# Altium integrated library TI Power Management Battery Management.IntLib: 949 symbols (part 11 of 62)
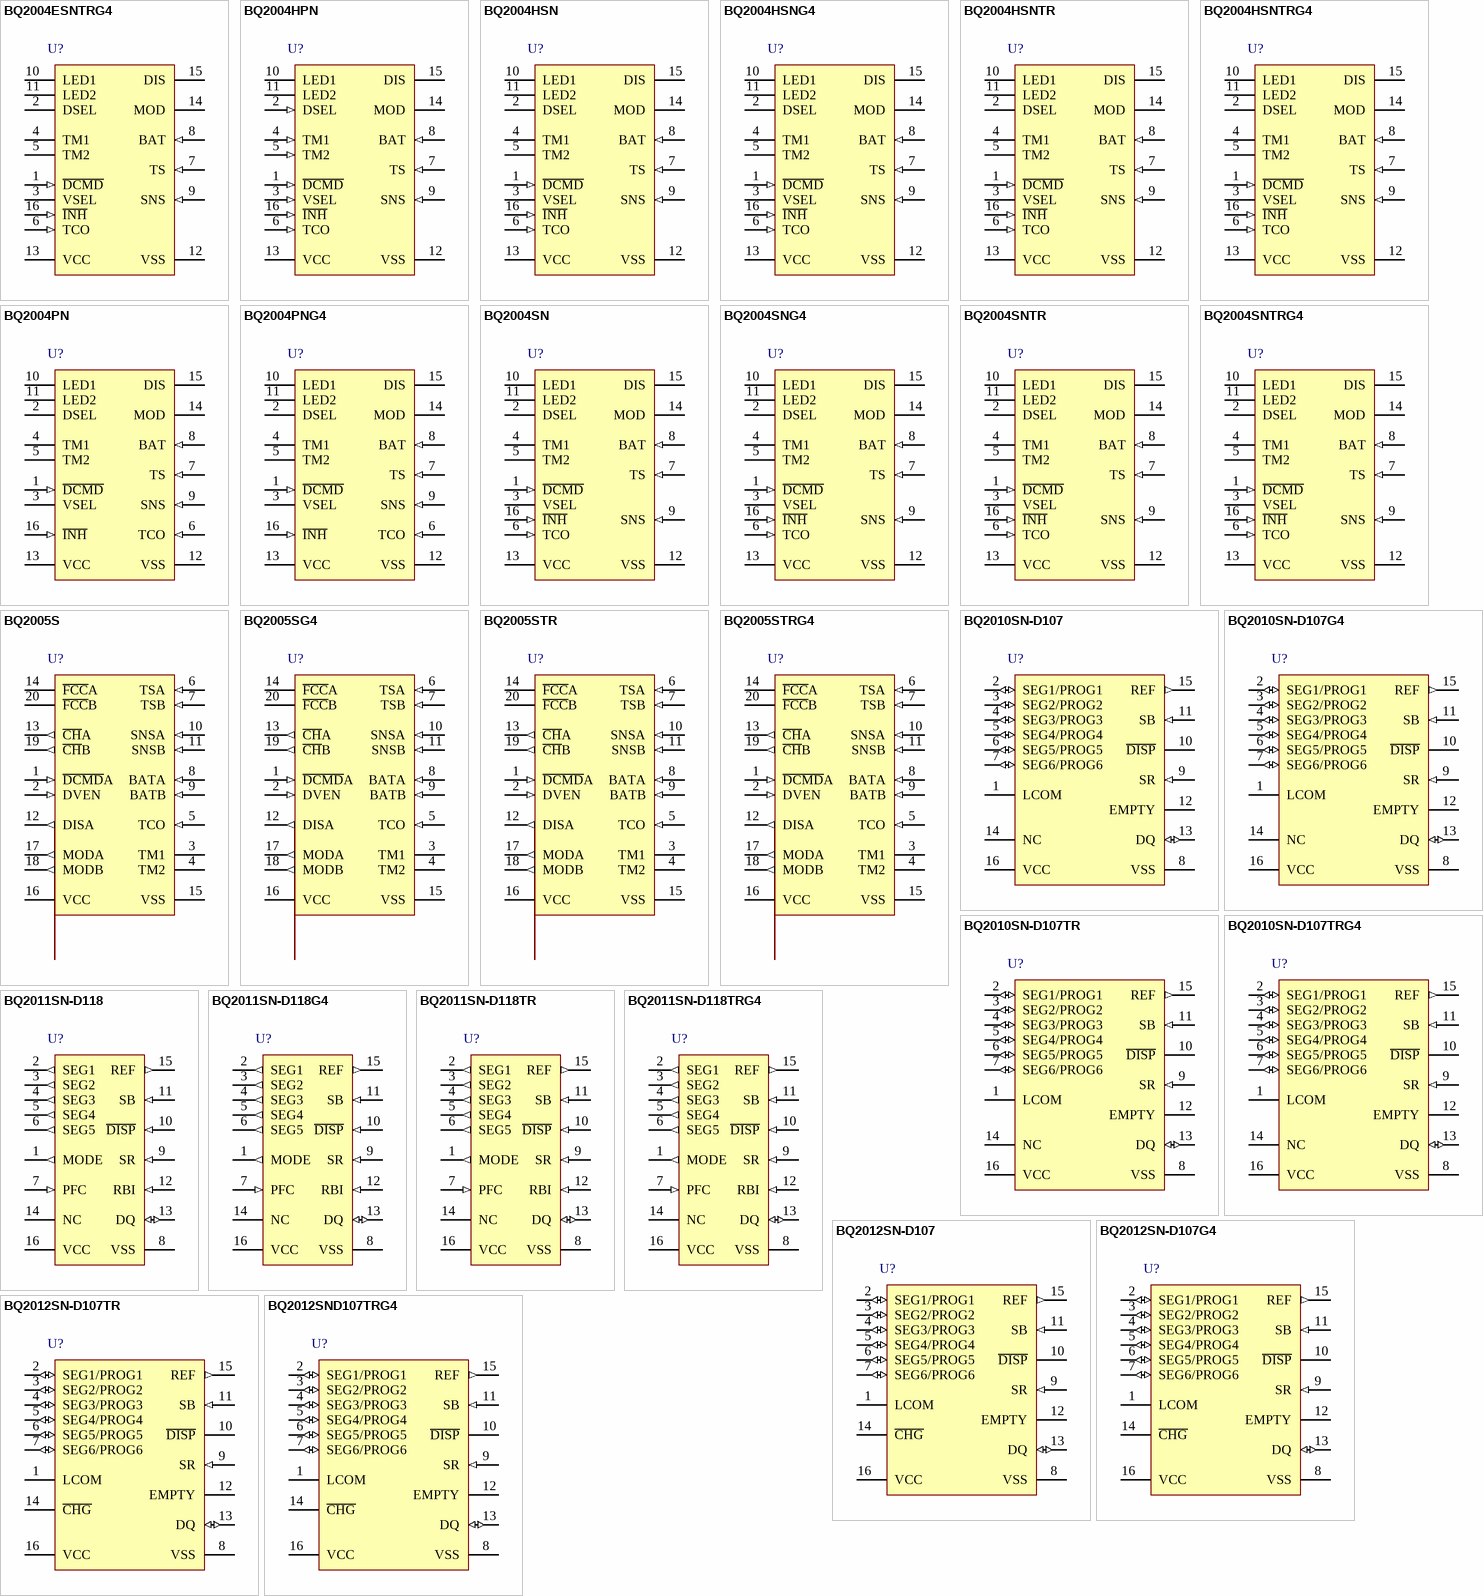
[diagram p44: symbols BQ2004ESNTRG4 to BQ2012SND107TRG4]

## BQ2010SN-D107TR
designator U?
NiCd / NiMH Gas Gauge with 1-Wire (DQ) Interface and 5 LED Drivers, 0 to 70 degC, 16-pin SOIC (D), Green (RoHS & no Sb/Br); PartNumber: BQ2010SN-D107TR; Manufacturer: Texas Instruments; Lead Acid: N; NiCd: Y; SubFamily: Battery Fuel Gauge; PackageVersion: revM, Jun-2011; PackageReference: D16; PackageDescription: 16-Pin Plastic Small Outline Integrated Circuit, 9.9 x 3.9 mm, Pitch 1.27 mm Pitch; Supplier 1: Digi-Key; Supplier Part Number 1: BQ2010SN-D107TR-ND; Supplier 2: Newark; Supplier Part Number 2: 74C7546; Supplier 3: Mouser; Supplier Part Number 3: 595-BQ2010SN-D107TR; Eco-Plan: Green (RoHS & no Sb/Br); Li-Ion: N; Li-Polymer: N; NiMH: Y; Over Voltage Protection: N; Mounting Technology: Surface Mount; Code_JEDEC: MS-012AC; ComponentLink1Description: Datasheet; ComponentLink1URL: http://www.ti.com/general/docs/lit/getliterature.tsp?genericPartNumber=BQ2010&fileType=pdf
footprint D16_N (SOIC, 16-Leads, Body 9.9x3.9mm, Pitch 1.27mm, IPC Medium Density)
footprint D16_L (SOIC, 16-Leads, Body 9.9x3.9mm, Pitch 1.27mm, IPC High Density)
footprint D16_M (SOIC, 16-Leads, Body 9.9x3.9mm, Pitch 1.27mm, IPC Low Density)
pins: 1 LCOM (hiz) "Open-drain output switches VCC to source current for the LEDs. The switch is off during initialization to allow reading of the soft pull-up or pull-down program resistors. LCOM is also high impedance when the display is off.", 2 SEG1/PROG1 (io) "Each output may activate an LED to sink the current sourced from LCOM. / This three-level input pin defines the programmed full count (PFC) thresholds described in Table 2.", 3 SEG2/PROG2 (io) "Each output may activate an LED to sink the current sourced from LCOM. / This three-level input pin defines the programmed full count (PFC) thresholds described in Table 2.", 4 SEG3/PROG3 (io) "Each output may activate an LED to sink the current sourced from LCOM. / This three-level input pin defines the scale factor described in Table 2.", 5 SEG4/PROG4 (io) "Each output may activate an LED to sink the current sourced from LCOM. / This three-level input pin defines the scale factor described in Table 2.", 6 SEG5/PROG5 (io) "Each output may activate an LED to sink the current sourced from LCOM. / This three-level input pin defines the selfdischarge compensation rate shown in Table 1.", 7 SEG6/PROG6 (io) "Each output may activate an LED to sink the current sourced from LCOM. / This three-level pin defines the display operation shown in Table 1.", 8 VSS (power) "Ground", 9 SR (in) "The voltage drop (VSR) across the sense resistor RS is monitored and integrated over time to interpret charge and discharge activity. The SR input is tied to the high side of the sense resistor. VSR < VSS indicates (See Datasheet)", 10 ~{DISP} "D\I\S\P\ high disables the LED display. D\I\S\P\ tied to VCC allows PROGX to connect directly to VCC or VSS instead of through a pull-up or pull-down resistor. D\I\S\P\ floating allows the LED display to be active during (See Datasheet)", 11 SB (in) "This input monitors the single-cell voltage potential through a high-impedance resistive divider network for end-of-discharge voltage (EDV) thresholds, maximum charge voltage (MCV), and battery removed.", 12 EMPTY (hiz) "This open-drain output becomes high-impedance on detection of a valid end-of-discharge voltage (VEDVF) and is low following the next application of a valid charge.", 13 DQ (io) "This is an open-drain bidirectional pin.", 14 NC "No connect", 15 REF (out) "REF provides a voltage reference output for an optional micro-regulator.", 16 VCC (power) "Supply voltage input."

## BQ2010SN-D107TRG4
designator U?
NiCd / NiMH Gas Gauge with 1-Wire (DQ) Interface and 5 LED Drivers, 0 to 70 degC, 16-pin SOIC (D), Green (RoHS & no Sb/Br); PartNumber: BQ2010SN-D107TRG4; Manufacturer: Texas Instruments; Lead Acid: N; NiCd: Y; SubFamily: Battery Fuel Gauge; PackageVersion: revM, Jun-2011; PackageReference: D16; PackageDescription: 16-Pin Plastic Small Outline Integrated Circuit, 9.9 x 3.9 mm, Pitch 1.27 mm Pitch; Supplier 1: Digi-Key; Supplier Part Number 1: BQ2010SN-D107TRG4-ND; Supplier 2: Newark; Supplier Part Number 2: 28K2818; Supplier 3: Mouser; Supplier Part Number 3: 595-BQ2010SND107TRG4; Eco-Plan: Green (RoHS & no Sb/Br); Li-Ion: N; Li-Polymer: N; NiMH: Y; Over Voltage Protection: N; Mounting Technology: Surface Mount; Code_JEDEC: MS-012AC; ComponentLink1Description: Datasheet; ComponentLink1URL: http://www.ti.com/general/docs/lit/getliterature.tsp?genericPartNumber=BQ2010&fileType=pdf
footprint D16_N (SOIC, 16-Leads, Body 9.9x3.9mm, Pitch 1.27mm, IPC Medium Density)
footprint D16_L (SOIC, 16-Leads, Body 9.9x3.9mm, Pitch 1.27mm, IPC High Density)
footprint D16_M (SOIC, 16-Leads, Body 9.9x3.9mm, Pitch 1.27mm, IPC Low Density)
pins: 1 LCOM (hiz) "Open-drain output switches VCC to source current for the LEDs. The switch is off during initialization to allow reading of the soft pull-up or pull-down program resistors. LCOM is also high impedance when the display is off.", 2 SEG1/PROG1 (io) "Each output may activate an LED to sink the current sourced from LCOM. / This three-level input pin defines the programmed full count (PFC) thresholds described in Table 2.", 3 SEG2/PROG2 (io) "Each output may activate an LED to sink the current sourced from LCOM. / This three-level input pin defines the programmed full count (PFC) thresholds described in Table 2.", 4 SEG3/PROG3 (io) "Each output may activate an LED to sink the current sourced from LCOM. / This three-level input pin defines the scale factor described in Table 2.", 5 SEG4/PROG4 (io) "Each output may activate an LED to sink the current sourced from LCOM. / This three-level input pin defines the scale factor described in Table 2.", 6 SEG5/PROG5 (io) "Each output may activate an LED to sink the current sourced from LCOM. / This three-level input pin defines the selfdischarge compensation rate shown in Table 1.", 7 SEG6/PROG6 (io) "Each output may activate an LED to sink the current sourced from LCOM. / This three-level pin defines the display operation shown in Table 1.", 8 VSS (power) "Ground", 9 SR (in) "The voltage drop (VSR) across the sense resistor RS is monitored and integrated over time to interpret charge and discharge activity. The SR input is tied to the high side of the sense resistor. VSR < VSS indicates (See Datasheet)", 10 ~{DISP} "D\I\S\P\ high disables the LED display. D\I\S\P\ tied to VCC allows PROGX to connect directly to VCC or VSS instead of through a pull-up or pull-down resistor. D\I\S\P\ floating allows the LED display to be active during (See Datasheet)", 11 SB (in) "This input monitors the single-cell voltage potential through a high-impedance resistive divider network for end-of-discharge voltage (EDV) thresholds, maximum charge voltage (MCV), and battery removed.", 12 EMPTY (hiz) "This open-drain output becomes high-impedance on detection of a valid end-of-discharge voltage (VEDVF) and is low following the next application of a valid charge.", 13 DQ (io) "This is an open-drain bidirectional pin.", 14 NC "No connect", 15 REF (out) "REF provides a voltage reference output for an optional micro-regulator.", 16 VCC (power) "Supply voltage input."

## BQ2011SN-D118
designator U?
NiCd Gas Gauge for High Discharge Rates (>5 A), Small Pack Capacities (<2 Ah) , 0 to 70 degC, 16-pin SOIC (D), Green (RoHS & no Sb/Br); PartNumber: BQ2011SN-D118; Manufacturer: Texas Instruments; Lead Acid: N; NiCd: Y; SubFamily: Battery Fuel Gauge; PackageVersion: revM, Jun-2011; PackageReference: D16; PackageDescription: 16-Pin Plastic Small Outline Integrated Circuit, 9.9 x 3.9 mm, Pitch 1.27 mm Pitch; Supplier 1: Digi-Key; Supplier Part Number 1: 296-9340-5-ND; Supplier 2: Newark; Supplier Part Number 2: 74C7548; Supplier 3: Mouser; Supplier Part Number 3: 595-BQ2011SN-D118; Eco-Plan: Green (RoHS & no Sb/Br); Li-Ion: N; Li-Polymer: N; NiMH: N; Over Voltage Protection: N; Mounting Technology: Surface Mount; Code_JEDEC: MS-012AC; ComponentLink1Description: Datasheet; ComponentLink1URL: http://www.ti.com/general/docs/lit/getliterature.tsp?genericPartNumber=BQ2011&fileType=pdf
footprint D16_N (SOIC, 16-Leads, Body 9.9x3.9mm, Pitch 1.27mm, IPC Medium Density)
footprint D16_L (SOIC, 16-Leads, Body 9.9x3.9mm, Pitch 1.27mm, IPC High Density)
footprint D16_M (SOIC, 16-Leads, Body 9.9x3.9mm, Pitch 1.27mm, IPC Low Density)
pins: 1 MODE (out) "When left floating, this output selects relative mode for capacity display. If connected to the anode of the LEDs to source current, absolute mode is selected for capacity display. See Table 1.", 2 SEG1 (out) "Each output may activate an LED to sink the current sourced from MODE, the battery, or VCC.", 3 SEG2 (out) "Each output may activate an LED to sink the current sourced from MODE, the battery, or VCC.", 4 SEG3 (out) "Each output may activate an LED to sink the current sourced from MODE, the battery, or VCC.", 5 SEG4 (out) "Each output may activate an LED to sink the current sourced from MODE, the battery, or VCC.", 6 SEG5 (out) "Each output may activate an LED to sink the current sourced from MODE, the battery, or VCC.", 7 PFC (in) "This three-level input pin defines the programmed full count (PFC) thresholds and scale selections described in Table 1. The state of the PFC pin is only read immediately after a reset condition.", 8 VSS (power) "Ground", 9 SR (in) "The voltage drop (VSR) across the sense resistor RS is monitored and integrated over time to interpret charge and discharge activity. The SR input is tied to the low side of the sense resistor. VSR > VSS indicates discharge, (See Datasheet)", 10 ~{DISP} (in) "D\I\S\P\ floating allows the LED display to be active during charge and discharge if VSRO < -1mV (charge) or VSRO > 2mV (discharge). Transitioning D\I\S\P\ low activates the display for 4 +/- 0.5 seconds.", 11 SB (in) "This input monitors the single-cell voltage potential through a high-impedance resistive divider network for the end-of-discharge voltage (EDV) threshold and maximum cell voltage (MCV).", 12 RBI (in) "This input is used to provide backup potential to the bq2011 registers during periods when VCC =< 3V. A storage capacitor should be connected to RBI.", 13 DQ (io) "This is an open-drain bidirectional pin.", 14 NC "No connect", 15 REF (out) "REF provides a voltage reference output for an optional micro-regulator.", 16 VCC (power) "Supply voltage input"

## BQ2011SN-D118G4
designator U?
NiCd Gas Gauge for High Discharge Rates (>5 A), Small Pack Capacities (<2 Ah) , 0 to 70 degC, 16-pin SOIC (D), Green (RoHS & no Sb/Br); PartNumber: BQ2011SN-D118G4; Manufacturer: Texas Instruments; Lead Acid: N; NiCd: Y; SubFamily: Battery Fuel Gauge; PackageVersion: revM, Jun-2011; PackageReference: D16; PackageDescription: 16-Pin Plastic Small Outline Integrated Circuit, 9.9 x 3.9 mm, Pitch 1.27 mm Pitch; Supplier 1: Digi-Key; Supplier Part Number 1: BQ2011SN-D118G4-ND; Supplier 2: Newark; Supplier Part Number 2: 28K2819; Supplier 3: Mouser; Supplier Part Number 3: 595-BQ2011SN-D118G4; Eco-Plan: Green (RoHS & no Sb/Br); Li-Ion: N; Li-Polymer: N; NiMH: N; Over Voltage Protection: N; Mounting Technology: Surface Mount; Code_JEDEC: MS-012AC; ComponentLink1Description: Datasheet; ComponentLink1URL: http://www.ti.com/general/docs/lit/getliterature.tsp?genericPartNumber=BQ2011&fileType=pdf
footprint D16_N (SOIC, 16-Leads, Body 9.9x3.9mm, Pitch 1.27mm, IPC Medium Density)
footprint D16_L (SOIC, 16-Leads, Body 9.9x3.9mm, Pitch 1.27mm, IPC High Density)
footprint D16_M (SOIC, 16-Leads, Body 9.9x3.9mm, Pitch 1.27mm, IPC Low Density)
pins: 1 MODE (out) "When left floating, this output selects relative mode for capacity display. If connected to the anode of the LEDs to source current, absolute mode is selected for capacity display. See Table 1.", 2 SEG1 (out) "Each output may activate an LED to sink the current sourced from MODE, the battery, or VCC.", 3 SEG2 (out) "Each output may activate an LED to sink the current sourced from MODE, the battery, or VCC.", 4 SEG3 (out) "Each output may activate an LED to sink the current sourced from MODE, the battery, or VCC.", 5 SEG4 (out) "Each output may activate an LED to sink the current sourced from MODE, the battery, or VCC.", 6 SEG5 (out) "Each output may activate an LED to sink the current sourced from MODE, the battery, or VCC.", 7 PFC (in) "This three-level input pin defines the programmed full count (PFC) thresholds and scale selections described in Table 1. The state of the PFC pin is only read immediately after a reset condition.", 8 VSS (power) "Ground", 9 SR (in) "The voltage drop (VSR) across the sense resistor RS is monitored and integrated over time to interpret charge and discharge activity. The SR input is tied to the low side of the sense resistor. VSR > VSS indicates discharge, (See Datasheet)", 10 ~{DISP} (in) "D\I\S\P\ floating allows the LED display to be active during charge and discharge if VSRO < -1mV (charge) or VSRO > 2mV (discharge). Transitioning D\I\S\P\ low activates the display for 4 +/- 0.5 seconds.", 11 SB (in) "This input monitors the single-cell voltage potential through a high-impedance resistive divider network for the end-of-discharge voltage (EDV) threshold and maximum cell voltage (MCV).", 12 RBI (in) "This input is used to provide backup potential to the bq2011 registers during periods when VCC =< 3V. A storage capacitor should be connected to RBI.", 13 DQ (io) "This is an open-drain bidirectional pin.", 14 NC "No connect", 15 REF (out) "REF provides a voltage reference output for an optional micro-regulator.", 16 VCC (power) "Supply voltage input"

## BQ2011SN-D118TR
designator U?
NiCd Gas Gauge for High Discharge Rates (>5 A), Small Pack Capacities (<2 Ah) , 0 to 70 degC, 16-pin SOIC (D), Green (RoHS & no Sb/Br); PartNumber: BQ2011SN-D118TR; Manufacturer: Texas Instruments; Lead Acid: N; NiCd: Y; SubFamily: Battery Fuel Gauge; PackageVersion: revM, Jun-2011; PackageReference: D16; PackageDescription: 16-Pin Plastic Small Outline Integrated Circuit, 9.9 x 3.9 mm, Pitch 1.27 mm Pitch; Supplier 1: Digi-Key; Supplier Part Number 1: BQ2011SN-D118TR-ND; Supplier 2: Newark; Supplier Part Number 2: 74C7549; Supplier 3: Mouser; Supplier Part Number 3: 595-BQ2011SN-D118TR; Eco-Plan: Green (RoHS & no Sb/Br); Li-Ion: N; Li-Polymer: N; NiMH: N; Over Voltage Protection: N; Mounting Technology: Surface Mount; Code_JEDEC: MS-012AC; ComponentLink1Description: Datasheet; ComponentLink1URL: http://www.ti.com/general/docs/lit/getliterature.tsp?genericPartNumber=BQ2011&fileType=pdf
footprint D16_N (SOIC, 16-Leads, Body 9.9x3.9mm, Pitch 1.27mm, IPC Medium Density)
footprint D16_L (SOIC, 16-Leads, Body 9.9x3.9mm, Pitch 1.27mm, IPC High Density)
footprint D16_M (SOIC, 16-Leads, Body 9.9x3.9mm, Pitch 1.27mm, IPC Low Density)
pins: 1 MODE (out) "When left floating, this output selects relative mode for capacity display. If connected to the anode of the LEDs to source current, absolute mode is selected for capacity display. See Table 1.", 2 SEG1 (out) "Each output may activate an LED to sink the current sourced from MODE, the battery, or VCC.", 3 SEG2 (out) "Each output may activate an LED to sink the current sourced from MODE, the battery, or VCC.", 4 SEG3 (out) "Each output may activate an LED to sink the current sourced from MODE, the battery, or VCC.", 5 SEG4 (out) "Each output may activate an LED to sink the current sourced from MODE, the battery, or VCC.", 6 SEG5 (out) "Each output may activate an LED to sink the current sourced from MODE, the battery, or VCC.", 7 PFC (in) "This three-level input pin defines the programmed full count (PFC) thresholds and scale selections described in Table 1. The state of the PFC pin is only read immediately after a reset condition.", 8 VSS (power) "Ground", 9 SR (in) "The voltage drop (VSR) across the sense resistor RS is monitored and integrated over time to interpret charge and discharge activity. The SR input is tied to the low side of the sense resistor. VSR > VSS indicates discharge, (See Datasheet)", 10 ~{DISP} (in) "D\I\S\P\ floating allows the LED display to be active during charge and discharge if VSRO < -1mV (charge) or VSRO > 2mV (discharge). Transitioning D\I\S\P\ low activates the display for 4 +/- 0.5 seconds.", 11 SB (in) "This input monitors the single-cell voltage potential through a high-impedance resistive divider network for the end-of-discharge voltage (EDV) threshold and maximum cell voltage (MCV).", 12 RBI (in) "This input is used to provide backup potential to the bq2011 registers during periods when VCC =< 3V. A storage capacitor should be connected to RBI.", 13 DQ (io) "This is an open-drain bidirectional pin.", 14 NC "No connect", 15 REF (out) "REF provides a voltage reference output for an optional micro-regulator.", 16 VCC (power) "Supply voltage input"

## BQ2011SN-D118TRG4
designator U?
NiCd Gas Gauge for High Discharge Rates (>5 A), Small Pack Capacities (<2 Ah) , 0 to 70 degC, 16-pin SOIC (D), Green (RoHS & no Sb/Br); PartNumber: BQ2011SN-D118TRG4; Manufacturer: Texas Instruments; Lead Acid: N; NiCd: Y; SubFamily: Battery Fuel Gauge; PackageVersion: revM, Jun-2011; PackageReference: D16; PackageDescription: 16-Pin Plastic Small Outline Integrated Circuit, 9.9 x 3.9 mm, Pitch 1.27 mm Pitch; Supplier 1: Digi-Key; Supplier Part Number 1: BQ2011SN-D118TRG4-ND; Supplier 2: Newark; Supplier Part Number 2: 28K2820; Supplier 3: Mouser; Supplier Part Number 3: 595-BQ2011SND118TRG4; Eco-Plan: Green (RoHS & no Sb/Br); Li-Ion: N; Li-Polymer: N; NiMH: N; Over Voltage Protection: N; Mounting Technology: Surface Mount; Code_JEDEC: MS-012AC; ComponentLink1Description: Datasheet; ComponentLink1URL: http://www.ti.com/general/docs/lit/getliterature.tsp?genericPartNumber=BQ2011&fileType=pdf
footprint D16_N (SOIC, 16-Leads, Body 9.9x3.9mm, Pitch 1.27mm, IPC Medium Density)
footprint D16_L (SOIC, 16-Leads, Body 9.9x3.9mm, Pitch 1.27mm, IPC High Density)
footprint D16_M (SOIC, 16-Leads, Body 9.9x3.9mm, Pitch 1.27mm, IPC Low Density)
pins: 1 MODE (out) "When left floating, this output selects relative mode for capacity display. If connected to the anode of the LEDs to source current, absolute mode is selected for capacity display. See Table 1.", 2 SEG1 (out) "Each output may activate an LED to sink the current sourced from MODE, the battery, or VCC.", 3 SEG2 (out) "Each output may activate an LED to sink the current sourced from MODE, the battery, or VCC.", 4 SEG3 (out) "Each output may activate an LED to sink the current sourced from MODE, the battery, or VCC.", 5 SEG4 (out) "Each output may activate an LED to sink the current sourced from MODE, the battery, or VCC.", 6 SEG5 (out) "Each output may activate an LED to sink the current sourced from MODE, the battery, or VCC.", 7 PFC (in) "This three-level input pin defines the programmed full count (PFC) thresholds and scale selections described in Table 1. The state of the PFC pin is only read immediately after a reset condition.", 8 VSS (power) "Ground", 9 SR (in) "The voltage drop (VSR) across the sense resistor RS is monitored and integrated over time to interpret charge and discharge activity. The SR input is tied to the low side of the sense resistor. VSR > VSS indicates discharge, (See Datasheet)", 10 ~{DISP} (in) "D\I\S\P\ floating allows the LED display to be active during charge and discharge if VSRO < -1mV (charge) or VSRO > 2mV (discharge). Transitioning D\I\S\P\ low activates the display for 4 +/- 0.5 seconds.", 11 SB (in) "This input monitors the single-cell voltage potential through a high-impedance resistive divider network for the end-of-discharge voltage (EDV) threshold and maximum cell voltage (MCV).", 12 RBI (in) "This input is used to provide backup potential to the bq2011 registers during periods when VCC =< 3V. A storage capacitor should be connected to RBI.", 13 DQ (io) "This is an open-drain bidirectional pin.", 14 NC "No connect", 15 REF (out) "REF provides a voltage reference output for an optional micro-regulator.", 16 VCC (power) "Supply voltage input"

## BQ2012SN-D107
designator U?
NiCd / NiMH Gas Gauge with 1-Wire (DQ) Interface, 5 LED Drivers and Slow-Charge Control , 0 to 70 degC, 16-pin SOIC (D), Green (RoHS & no Sb/Br); PartNumber: BQ2012SN-D107; Manufacturer: Texas Instruments; Lead Acid: N; NiCd: Y; SubFamily: Battery Fuel Gauge; DatasheetVersion: Rev.A; PackageVersion: revM, Jun-2011; PackageReference: D16; PackageDescription: 16-Pin Plastic Small Outline Integrated Circuit, 9.9 x 3.9 mm, Pitch 1.27 mm Pitch; Supplier 1: Digi-Key; Supplier Part Number 1: 296-9341-5-ND; Supplier 2: Farnell; Supplier Part Number 2: 1659624; Supplier 3: Newark; Supplier Part Number 3: 74C7550; Supplier 4: Mouser; Supplier Part Number 4: 595-BQ2012SN-D107; Eco-Plan: Green (RoHS & no Sb/Br); Li-Ion: N; Li-Polymer: N; NiMH: Y; Over Voltage Protection: N; Mounting Technology: Surface Mount; Code_JEDEC: MS-012AC; ComponentLink1Description: Datasheet; ComponentLink1URL: http://www.ti.com/general/docs/lit/getliterature.tsp?genericPartNumber=BQ2012&fileType=pdf
footprint D16_N (SOIC, 16-Leads, Body 9.9x3.9mm, Pitch 1.27mm, IPC Medium Density)
footprint D16_L (SOIC, 16-Leads, Body 9.9x3.9mm, Pitch 1.27mm, IPC High Density)
footprint D16_M (SOIC, 16-Leads, Body 9.9x3.9mm, Pitch 1.27mm, IPC Low Density)
pins: 1 LCOM (hiz) "Open-drain output switches VCC to source current for the LEDs. The switch is off during initialization to allow reading of the soft pull-up or pull-down program resistors. LCOM is also high impedance when the display is off.", 2 SEG1/PROG1 (io) "Each output may activate an LED to sink the current sourced from LCOM. / This three-level input pin defines the programmed full count (PFC) thresholds described in Table 2.", 3 SEG2/PROG2 (io) "Each output may activate an LED to sink the current sourced from LCOM. / This three-level input pin defines the programmed full count (PFC) thresholds described in Table 2.", 4 SEG3/PROG3 (io) "Each output may activate an LED to sink the current sourced from LCOM. / This three-level input pin defines the scale factor described in Table 2.", 5 SEG4/PROG4 (io) "Each output may activate an LED to sink the current sourced from LCOM. / This three-level input pin defines the scale factor described in Table 2.", 6 SEG5/PROG5 (io) "Each output may activate an LED to sink the current sourced from LCOM. / This three-level input pin defines the selfdischarge compensation rate shown in Table 1.", 7 SEG6/PROG6 (io) "Each output may activate an LED to sink the current sourced from LCOM. / This three-level pin defines the display operation shown in Table 1.", 8 VSS (power) "Ground", 9 SR (in) "The voltage drop (VSR) across the sense resistor RS is monitored and integrated over time to interpret charge and discharge activity. The SR input is tied to the high side of the sense resistor. VSR < VSS indicates (See Datasheet)", 10 ~{DISP} "D\I\S\P\ high disables the LED display. D\I\S\P\ tied to VCC allows PROGX to connect directly to VCC or VSS instead of through a pull-up or pull-down resistor. D\I\S\P\ floating allows the LED display to be active during (See Datasheet)", 11 SB (in) "This input monitors the single-cell voltage potential through a high-impedance resistive divider network for end-of-discharge voltage (EDV) thresholds, maximum charge voltage (MCV), and battery removed.", 12 EMPTY (hiz) "This open-drain output becomes high-impedance on detection of a valid end-of-discharge voltage (VEDVF) and is low following the next application of a valid charge.", 13 DQ (io) "This is an open-drain bidirectional pin.", 14 ~{CHG} (hiz) "This open-drain output becomes active low when charging is allowed. Valid charging conditions are described in the Charge Control section.", 15 REF (out) "REF provides a voltage reference output for an optional micro-regulator.", 16 VCC (power) "Supply voltage input."

## BQ2012SN-D107G4
designator U?
NiCd / NiMH Gas Gauge with 1-Wire (DQ) Interface, 5 LED Drivers and Slow-Charge Control , 0 to 70 degC, 16-pin SOIC (D), Green (RoHS & no Sb/Br); PartNumber: BQ2012SN-D107G4; Manufacturer: Texas Instruments; Lead Acid: N; NiCd: Y; SubFamily: Battery Fuel Gauge; DatasheetVersion: Rev.A; PackageVersion: revM, Jun-2011; PackageReference: D16; PackageDescription: 16-Pin Plastic Small Outline Integrated Circuit, 9.9 x 3.9 mm, Pitch 1.27 mm Pitch; Supplier 1: Digi-Key; Supplier Part Number 1: BQ2012SN-D107G4-ND; Supplier 2: Newark; Supplier Part Number 2: 58K5571; Supplier 3: Mouser; Supplier Part Number 3: 595-BQ2012SN-D107G4; Eco-Plan: Green (RoHS & no Sb/Br); Li-Ion: N; Li-Polymer: N; NiMH: Y; Over Voltage Protection: N; Mounting Technology: Surface Mount; Code_JEDEC: MS-012AC; ComponentLink1Description: Datasheet; ComponentLink1URL: http://www.ti.com/general/docs/lit/getliterature.tsp?genericPartNumber=BQ2012&fileType=pdf
footprint D16_N (SOIC, 16-Leads, Body 9.9x3.9mm, Pitch 1.27mm, IPC Medium Density)
footprint D16_L (SOIC, 16-Leads, Body 9.9x3.9mm, Pitch 1.27mm, IPC High Density)
footprint D16_M (SOIC, 16-Leads, Body 9.9x3.9mm, Pitch 1.27mm, IPC Low Density)
pins: 1 LCOM (hiz) "Open-drain output switches VCC to source current for the LEDs. The switch is off during initialization to allow reading of the soft pull-up or pull-down program resistors. LCOM is also high impedance when the display is off.", 2 SEG1/PROG1 (io) "Each output may activate an LED to sink the current sourced from LCOM. / This three-level input pin defines the programmed full count (PFC) thresholds described in Table 2.", 3 SEG2/PROG2 (io) "Each output may activate an LED to sink the current sourced from LCOM. / This three-level input pin defines the programmed full count (PFC) thresholds described in Table 2.", 4 SEG3/PROG3 (io) "Each output may activate an LED to sink the current sourced from LCOM. / This three-level input pin defines the scale factor described in Table 2.", 5 SEG4/PROG4 (io) "Each output may activate an LED to sink the current sourced from LCOM. / This three-level input pin defines the scale factor described in Table 2.", 6 SEG5/PROG5 (io) "Each output may activate an LED to sink the current sourced from LCOM. / This three-level input pin defines the selfdischarge compensation rate shown in Table 1.", 7 SEG6/PROG6 (io) "Each output may activate an LED to sink the current sourced from LCOM. / This three-level pin defines the display operation shown in Table 1.", 8 VSS (power) "Ground", 9 SR (in) "The voltage drop (VSR) across the sense resistor RS is monitored and integrated over time to interpret charge and discharge activity. The SR input is tied to the high side of the sense resistor. VSR < VSS indicates (See Datasheet)", 10 ~{DISP} "D\I\S\P\ high disables the LED display. D\I\S\P\ tied to VCC allows PROGX to connect directly to VCC or VSS instead of through a pull-up or pull-down resistor. D\I\S\P\ floating allows the LED display to be active during (See Datasheet)", 11 SB (in) "This input monitors the single-cell voltage potential through a high-impedance resistive divider network for end-of-discharge voltage (EDV) thresholds, maximum charge voltage (MCV), and battery removed.", 12 EMPTY (hiz) "This open-drain output becomes high-impedance on detection of a valid end-of-discharge voltage (VEDVF) and is low following the next application of a valid charge.", 13 DQ (io) "This is an open-drain bidirectional pin.", 14 ~{CHG} (hiz) "This open-drain output becomes active low when charging is allowed. Valid charging conditions are described in the Charge Control section.", 15 REF (out) "REF provides a voltage reference output for an optional micro-regulator.", 16 VCC (power) "Supply voltage input."

## BQ2012SN-D107TR
designator U?
NiCd / NiMH Gas Gauge with 1-Wire (DQ) Interface, 5 LED Drivers and Slow-Charge Control , 0 to 70 degC, 16-pin SOIC (D), Green (RoHS & no Sb/Br); PartNumber: BQ2012SN-D107TR; Manufacturer: Texas Instruments; Lead Acid: N; NiCd: Y; SubFamily: Battery Fuel Gauge; DatasheetVersion: Rev.A; PackageVersion: revM, Jun-2011; PackageReference: D16; PackageDescription: 16-Pin Plastic Small Outline Integrated Circuit, 9.9 x 3.9 mm, Pitch 1.27 mm Pitch; Supplier 1: Digi-Key; Supplier Part Number 1: BQ2012SN-D107TR-ND; Supplier 2: Newark; Supplier Part Number 2: 74C7551; Supplier 3: Mouser; Supplier Part Number 3: 595-BQ2012SN-D107TR; Eco-Plan: Green (RoHS & no Sb/Br); Li-Ion: N; Li-Polymer: N; NiMH: Y; Over Voltage Protection: N; Mounting Technology: Surface Mount; Code_JEDEC: MS-012AC; ComponentLink1Description: Datasheet; ComponentLink1URL: http://www.ti.com/general/docs/lit/getliterature.tsp?genericPartNumber=BQ2012&fileType=pdf
footprint D16_N (SOIC, 16-Leads, Body 9.9x3.9mm, Pitch 1.27mm, IPC Medium Density)
footprint D16_L (SOIC, 16-Leads, Body 9.9x3.9mm, Pitch 1.27mm, IPC High Density)
footprint D16_M (SOIC, 16-Leads, Body 9.9x3.9mm, Pitch 1.27mm, IPC Low Density)
pins: 1 LCOM (hiz) "Open-drain output switches VCC to source current for the LEDs. The switch is off during initialization to allow reading of the soft pull-up or pull-down program resistors. LCOM is also high impedance when the display is off.", 2 SEG1/PROG1 (io) "Each output may activate an LED to sink the current sourced from LCOM. / This three-level input pin defines the programmed full count (PFC) thresholds described in Table 2.", 3 SEG2/PROG2 (io) "Each output may activate an LED to sink the current sourced from LCOM. / This three-level input pin defines the programmed full count (PFC) thresholds described in Table 2.", 4 SEG3/PROG3 (io) "Each output may activate an LED to sink the current sourced from LCOM. / This three-level input pin defines the scale factor described in Table 2.", 5 SEG4/PROG4 (io) "Each output may activate an LED to sink the current sourced from LCOM. / This three-level input pin defines the scale factor described in Table 2.", 6 SEG5/PROG5 (io) "Each output may activate an LED to sink the current sourced from LCOM. / This three-level input pin defines the selfdischarge compensation rate shown in Table 1.", 7 SEG6/PROG6 (io) "Each output may activate an LED to sink the current sourced from LCOM. / This three-level pin defines the display operation shown in Table 1.", 8 VSS (power) "Ground", 9 SR (in) "The voltage drop (VSR) across the sense resistor RS is monitored and integrated over time to interpret charge and discharge activity. The SR input is tied to the high side of the sense resistor. VSR < VSS indicates (See Datasheet)", 10 ~{DISP} "D\I\S\P\ high disables the LED display. D\I\S\P\ tied to VCC allows PROGX to connect directly to VCC or VSS instead of through a pull-up or pull-down resistor. D\I\S\P\ floating allows the LED display to be active during (See Datasheet)", 11 SB (in) "This input monitors the single-cell voltage potential through a high-impedance resistive divider network for end-of-discharge voltage (EDV) thresholds, maximum charge voltage (MCV), and battery removed.", 12 EMPTY (hiz) "This open-drain output becomes high-impedance on detection of a valid end-of-discharge voltage (VEDVF) and is low following the next application of a valid charge.", 13 DQ (io) "This is an open-drain bidirectional pin.", 14 ~{CHG} (hiz) "This open-drain output becomes active low when charging is allowed. Valid charging conditions are described in the Charge Control section.", 15 REF (out) "REF provides a voltage reference output for an optional micro-regulator.", 16 VCC (power) "Supply voltage input."

## BQ2012SND107TRG4
designator U?
NiCd / NiMH Gas Gauge with 1-Wire (DQ) Interface, 5 LED Drivers and Slow-Charge Control , 0 to 70 degC, 16-pin SOIC (D), Green (RoHS & no Sb/Br); PartNumber: BQ2012SND107TRG4; Manufacturer: Texas Instruments; Lead Acid: N; NiCd: Y; SubFamily: Battery Fuel Gauge; DatasheetVersion: Rev.A; PackageVersion: revM, Jun-2011; PackageReference: D16; PackageDescription: 16-Pin Plastic Small Outline Integrated Circuit, 9.9 x 3.9 mm, Pitch 1.27 mm Pitch; Supplier 1: Digi-Key; Supplier Part Number 1: BQ2012SND107TRG4-ND; Supplier 2: Newark; Supplier Part Number 2: 69K8923; Supplier 3: Mouser; Supplier Part Number 3: 595-BQ2012SND107TRG4; Eco-Plan: Green (RoHS & no Sb/Br); Li-Ion: N; Li-Polymer: N; NiMH: Y; Over Voltage Protection: N; Mounting Technology: Surface Mount; Code_JEDEC: MS-012AC; ComponentLink1Description: Datasheet; ComponentLink1URL: http://www.ti.com/general/docs/lit/getliterature.tsp?genericPartNumber=BQ2012&fileType=pdf
footprint D16_N (SOIC, 16-Leads, Body 9.9x3.9mm, Pitch 1.27mm, IPC Medium Density)
footprint D16_L (SOIC, 16-Leads, Body 9.9x3.9mm, Pitch 1.27mm, IPC High Density)
footprint D16_M (SOIC, 16-Leads, Body 9.9x3.9mm, Pitch 1.27mm, IPC Low Density)
pins: 1 LCOM (hiz) "Open-drain output switches VCC to source current for the LEDs. The switch is off during initialization to allow reading of the soft pull-up or pull-down program resistors. LCOM is also high impedance when the display is off.", 2 SEG1/PROG1 (io) "Each output may activate an LED to sink the current sourced from LCOM. / This three-level input pin defines the programmed full count (PFC) thresholds described in Table 2.", 3 SEG2/PROG2 (io) "Each output may activate an LED to sink the current sourced from LCOM. / This three-level input pin defines the programmed full count (PFC) thresholds described in Table 2.", 4 SEG3/PROG3 (io) "Each output may activate an LED to sink the current sourced from LCOM. / This three-level input pin defines the scale factor described in Table 2.", 5 SEG4/PROG4 (io) "Each output may activate an LED to sink the current sourced from LCOM. / This three-level input pin defines the scale factor described in Table 2.", 6 SEG5/PROG5 (io) "Each output may activate an LED to sink the current sourced from LCOM. / This three-level input pin defines the selfdischarge compensation rate shown in Table 1.", 7 SEG6/PROG6 (io) "Each output may activate an LED to sink the current sourced from LCOM. / This three-level pin defines the display operation shown in Table 1.", 8 VSS (power) "Ground", 9 SR (in) "The voltage drop (VSR) across the sense resistor RS is monitored and integrated over time to interpret charge and discharge activity. The SR input is tied to the high side of the sense resistor. VSR < VSS indicates (See Datasheet)", 10 ~{DISP} "D\I\S\P\ high disables the LED display. D\I\S\P\ tied to VCC allows PROGX to connect directly to VCC or VSS instead of through a pull-up or pull-down resistor. D\I\S\P\ floating allows the LED display to be active during (See Datasheet)", 11 SB (in) "This input monitors the single-cell voltage potential through a high-impedance resistive divider network for end-of-discharge voltage (EDV) thresholds, maximum charge voltage (MCV), and battery removed.", 12 EMPTY (hiz) "This open-drain output becomes high-impedance on detection of a valid end-of-discharge voltage (VEDVF) and is low following the next application of a valid charge.", 13 DQ (io) "This is an open-drain bidirectional pin.", 14 ~{CHG} (hiz) "This open-drain output becomes active low when charging is allowed. Valid charging conditions are described in the Charge Control section.", 15 REF (out) "REF provides a voltage reference output for an optional micro-regulator.", 16 VCC (power) "Supply voltage input."

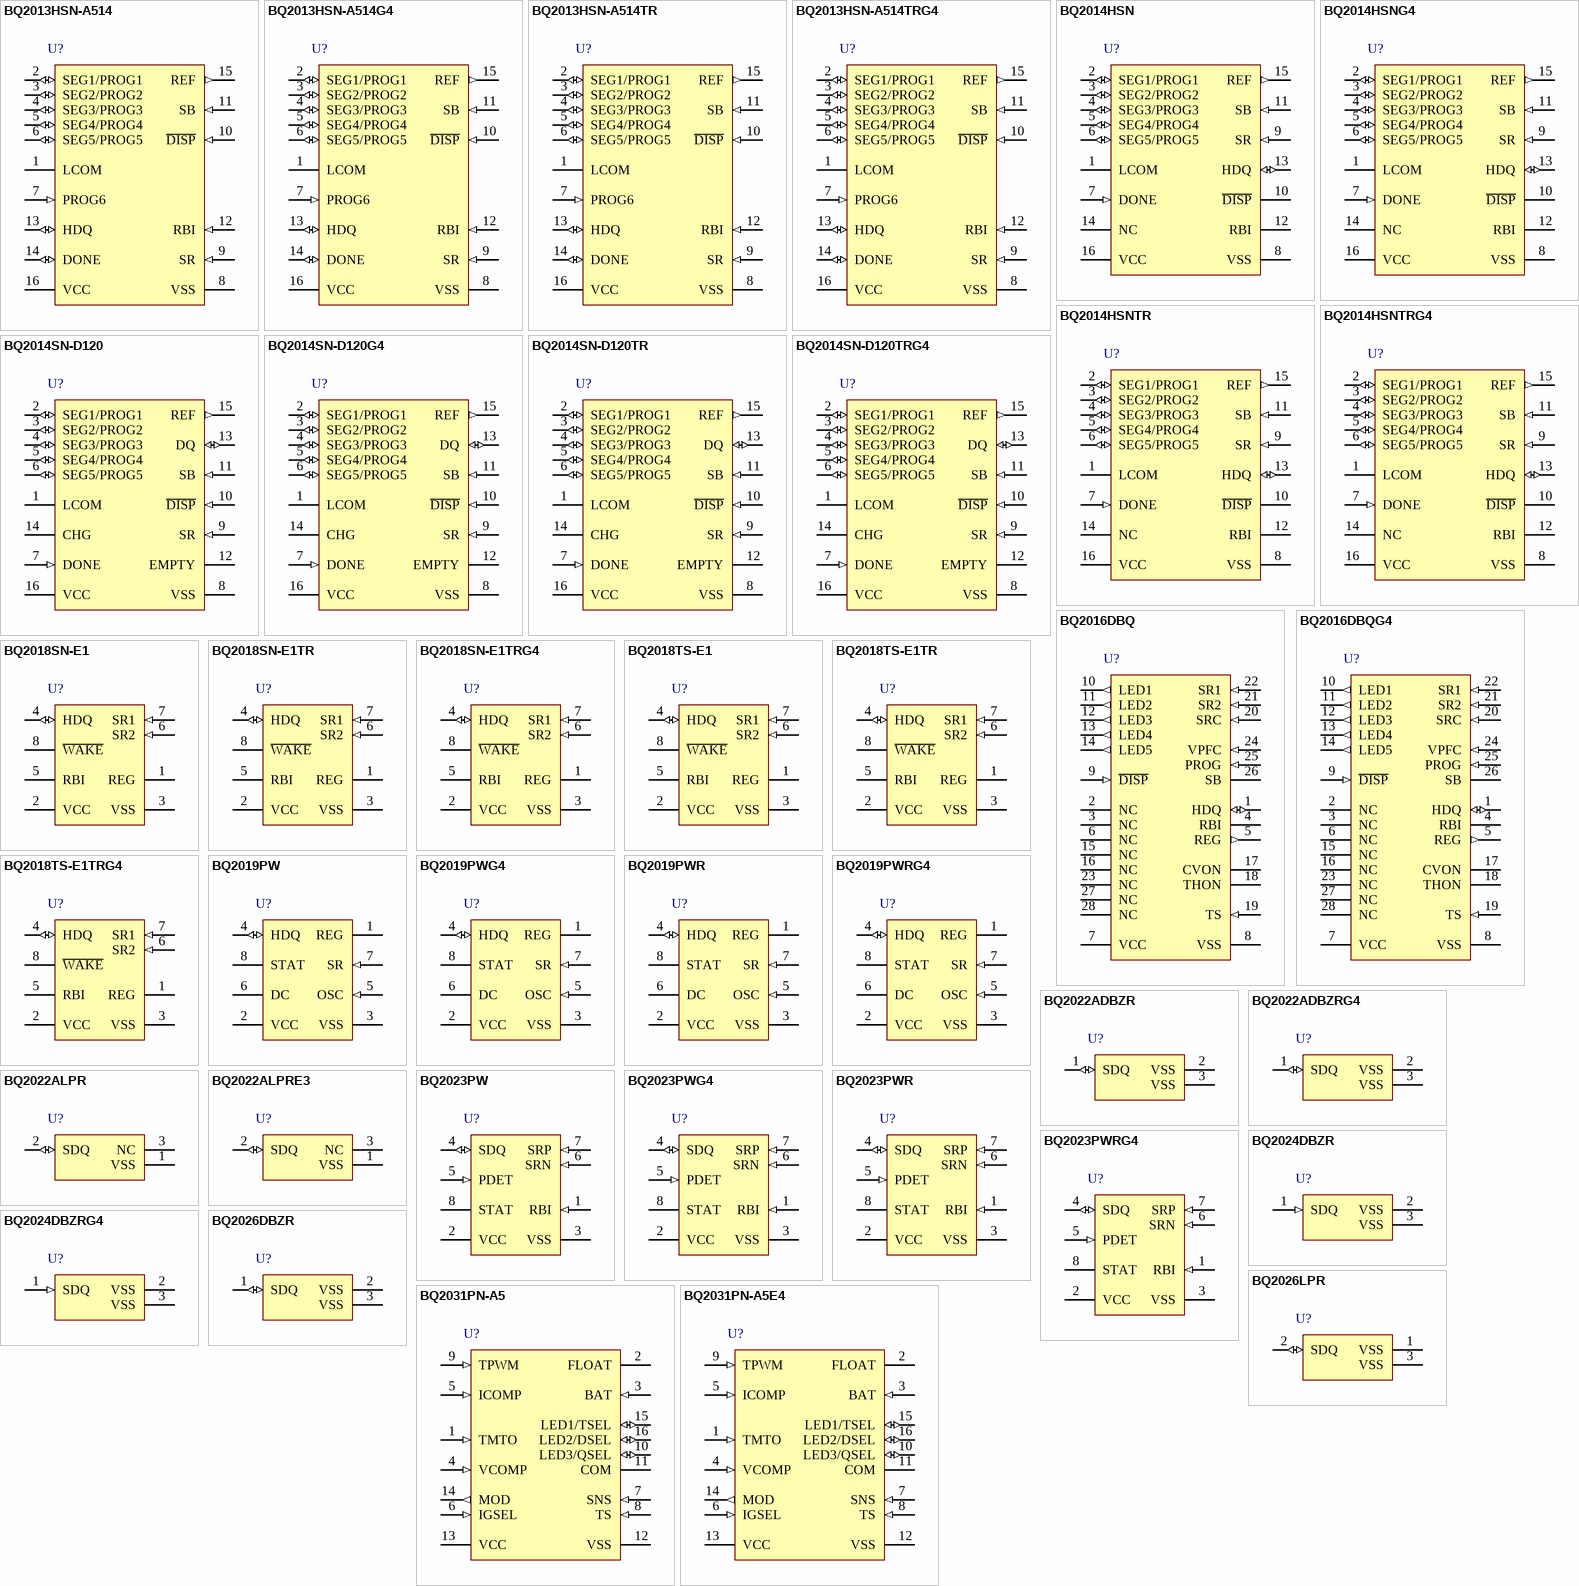
[diagram p6: symbols BQ2013HSN-A514 to BQ2031PN-A5E4]

## BQ2013HSN-A514
designator U?
NiCd / NiMH / Lead-Acid Gas Gauge for High Discharge Rates (>10 A), Pgmable Offset Error & Load Comp, 0 to 70 degC, 16-pin SOIC (D), Green (RoHS & no Sb/Br); PartNumber: BQ2013HSN-A514; Manufacturer: Texas Instruments; Lead Acid: Y; Li-Ion: N; SubFamily: Battery Fuel Gauge; DatasheetVersion: SLUS120; PackageVersion: revM, Jun-2011; PackageReference: D16; PackageDescription: 16-Pin Plastic Small Outline Integrated Circuit, 9.9 x 3.9 mm, Pitch 1.27 mm Pitch; Supplier 1: Digi-Key; Supplier Part Number 1: 296-9343-5-ND; Supplier 2: Newark; Supplier Part Number 2: 74C7553; Supplier 3: Mouser; Supplier Part Number 3: 595-BQ2013HSN-A514; Eco-Plan: Green (RoHS & no Sb/Br); Li-Polymer: N; NiCd: Y; NiMH: Y; Over Voltage Protection: N; Mounting Technology: Surface Mount; Code_JEDEC: MS-012AC; ComponentLink1Description: Datasheet; ComponentLink1URL: http://www.ti.com/general/docs/lit/getliterature.tsp?genericPartNumber=BQ2013H&fileType=pdf
footprint D16_N (SOIC, 16-Leads, Body 9.9x3.9mm, Pitch 1.27mm, IPC Medium Density)
footprint D16_L (SOIC, 16-Leads, Body 9.9x3.9mm, Pitch 1.27mm, IPC High Density)
footprint D16_M (SOIC, 16-Leads, Body 9.9x3.9mm, Pitch 1.27mm, IPC Low Density)
pins: 1 LCOM (hiz) "Open-drain output switches VCC to source current for the LEDs. The switch is off during initialization to allow reading of the soft pull-up or pull-down program resistors. LCOM is also high impedance when the display is off.", 2 SEG1/PROG1 (io) "Each output may activate an LED to sink the current sourced from LCOM. This three-level input pin defines the programmed full-count (PFC), display mode, self-discharge rate, offset compensation, overload threshold, and (See Datasheet)", 3 SEG2/PROG2 (io) "Each output may activate an LED to sink the current sourced from LCOM. This three-level input pin defines the programmed full-count (PFC), display mode, self-discharge rate, offset compensation, overload threshold, and (See Datasheet)", 4 SEG3/PROG3 (io) "Each output may activate an LED to sink the current sourced from LCOM. This three-level input pin defines the programmed full-count (PFC), display mode, self-discharge rate, offset compensation, overload threshold, and (See Datasheet)", 5 SEG4/PROG4 (io) "Each output may activate an LED to sink the current sourced from LCOM. This three-level input pin defines the programmed full-count (PFC), display mode, self-discharge rate, offset compensation, overload threshold, and (See Datasheet)", 6 SEG5/PROG5 (io) "Each output may activate an LED to sink the current sourced from LCOM. This three-level input pin defines the programmed full-count (PFC), display mode, self-discharge rate, offset compensation, overload threshold, and (See Datasheet)", 7 PROG6 (in) "This three-level input pin defines the programmed full-count (PFC), display mode, self-discharge rate, offset compensation, overload threshold, and charge compensation.", 8 VSS (power) "Ground", 9 SR (in) "The voltage drop (VSR) across the sense resistor RS is monitored and integrated over time to interpret charge and discharge activity. The SR input (see Figure 1) is connected between the negative terminal of the battery and (See Datasheet)", 10 ~{DISP} (in) "D\I\S\P\ pulled high disables the display. D\I\S\P\ floating allows the LED display to be active during certain charge and discharge conditions. Transitioning D\I\S\P\ low activates the display.", 11 SB (in) "This input monitors the scaled battery voltage through a high-impedance resistive divider network for the end-of-discharge voltage (EDV) thresholds.", 12 RBI (in) "This input is used to provide backup potential to the bq2013H registers during periods when VCC < 3V. A storage capacitor can be connected to RBI.", 13 HDQ (io) "This is an open-drain bidirectional communications port.", 14 DONE (io) "This input/output is used to communicate the status of an external charge controller to the bq2013H.", 15 REF (out) "REF provides a voltage reference output for an optional micro-regulator.", 16 VCC (power) "Supply voltage input"

## BQ2013HSN-A514G4
designator U?
NiCd / NiMH / Lead-Acid Gas Gauge for High Discharge Rates (>10 A), Pgmable Offset Error & Load Comp, 0 to 70 degC, 16-pin SOIC (D), Green (RoHS & no Sb/Br); PartNumber: BQ2013HSN-A514G4; Manufacturer: Texas Instruments; Lead Acid: Y; Li-Ion: N; SubFamily: Battery Fuel Gauge; DatasheetVersion: SLUS120; PackageVersion: revM, Jun-2011; PackageReference: D16; PackageDescription: 16-Pin Plastic Small Outline Integrated Circuit, 9.9 x 3.9 mm, Pitch 1.27 mm Pitch; Supplier 1: Digi-Key; Supplier Part Number 1: BQ2013HSN-A514G4-ND; Supplier 2: Farnell; Supplier Part Number 2: 1206882; Supplier 3: Newark; Supplier Part Number 3: 62M9461; Supplier 4: Newark; Supplier Part Number 4: 53K9212; Supplier 5: Mouser; Supplier Part Number 5: 595-BQ2013HSN-A514G4; Eco-Plan: Green (RoHS & no Sb/Br); Li-Polymer: N; NiCd: Y; NiMH: Y; Over Voltage Protection: N; Mounting Technology: Surface Mount; Code_JEDEC: MS-012AC; ComponentLink1Description: Datasheet; ComponentLink1URL: http://www.ti.com/general/docs/lit/getliterature.tsp?genericPartNumber=BQ2013H&fileType=pdf
footprint D16_N (SOIC, 16-Leads, Body 9.9x3.9mm, Pitch 1.27mm, IPC Medium Density)
footprint D16_L (SOIC, 16-Leads, Body 9.9x3.9mm, Pitch 1.27mm, IPC High Density)
footprint D16_M (SOIC, 16-Leads, Body 9.9x3.9mm, Pitch 1.27mm, IPC Low Density)
pins: 1 LCOM (hiz) "Open-drain output switches VCC to source current for the LEDs. The switch is off during initialization to allow reading of the soft pull-up or pull-down program resistors. LCOM is also high impedance when the display is off.", 2 SEG1/PROG1 (io) "Each output may activate an LED to sink the current sourced from LCOM. This three-level input pin defines the programmed full-count (PFC), display mode, self-discharge rate, offset compensation, overload threshold, and (See Datasheet)", 3 SEG2/PROG2 (io) "Each output may activate an LED to sink the current sourced from LCOM. This three-level input pin defines the programmed full-count (PFC), display mode, self-discharge rate, offset compensation, overload threshold, and (See Datasheet)", 4 SEG3/PROG3 (io) "Each output may activate an LED to sink the current sourced from LCOM. This three-level input pin defines the programmed full-count (PFC), display mode, self-discharge rate, offset compensation, overload threshold, and (See Datasheet)", 5 SEG4/PROG4 (io) "Each output may activate an LED to sink the current sourced from LCOM. This three-level input pin defines the programmed full-count (PFC), display mode, self-discharge rate, offset compensation, overload threshold, and (See Datasheet)", 6 SEG5/PROG5 (io) "Each output may activate an LED to sink the current sourced from LCOM. This three-level input pin defines the programmed full-count (PFC), display mode, self-discharge rate, offset compensation, overload threshold, and (See Datasheet)", 7 PROG6 (in) "This three-level input pin defines the programmed full-count (PFC), display mode, self-discharge rate, offset compensation, overload threshold, and charge compensation.", 8 VSS (power) "Ground", 9 SR (in) "The voltage drop (VSR) across the sense resistor RS is monitored and integrated over time to interpret charge and discharge activity. The SR input (see Figure 1) is connected between the negative terminal of the battery and (See Datasheet)", 10 ~{DISP} (in) "D\I\S\P\ pulled high disables the display. D\I\S\P\ floating allows the LED display to be active during certain charge and discharge conditions. Transitioning D\I\S\P\ low activates the display.", 11 SB (in) "This input monitors the scaled battery voltage through a high-impedance resistive divider network for the end-of-discharge voltage (EDV) thresholds.", 12 RBI (in) "This input is used to provide backup potential to the bq2013H registers during periods when VCC < 3V. A storage capacitor can be connected to RBI.", 13 HDQ (io) "This is an open-drain bidirectional communications port.", 14 DONE (io) "This input/output is used to communicate the status of an external charge controller to the bq2013H.", 15 REF (out) "REF provides a voltage reference output for an optional micro-regulator.", 16 VCC (power) "Supply voltage input"

## BQ2013HSN-A514TR
designator U?
NiCd / NiMH / Lead-Acid Gas Gauge for High Discharge Rates (>10 A), Pgmable Offset Error & Load Comp, 0 to 70 degC, 16-pin SOIC (D), Green (RoHS & no Sb/Br); PartNumber: BQ2013HSN-A514TR; Manufacturer: Texas Instruments; Lead Acid: Y; Li-Ion: N; SubFamily: Battery Fuel Gauge; DatasheetVersion: SLUS120; PackageVersion: revM, Jun-2011; PackageReference: D16; PackageDescription: 16-Pin Plastic Small Outline Integrated Circuit, 9.9 x 3.9 mm, Pitch 1.27 mm Pitch; Supplier 1: Digi-Key; Supplier Part Number 1: BQ2013HSN-A514TR-ND; Supplier 2: Newark; Supplier Part Number 2: 74C7554; Supplier 3: Mouser; Supplier Part Number 3: 595-BQ2013HSN-A514TR; Eco-Plan: Green (RoHS & no Sb/Br); Li-Polymer: N; NiCd: Y; NiMH: Y; Over Voltage Protection: N; Mounting Technology: Surface Mount; Code_JEDEC: MS-012AC; ComponentLink1Description: Datasheet; ComponentLink1URL: http://www.ti.com/general/docs/lit/getliterature.tsp?genericPartNumber=BQ2013H&fileType=pdf
footprint D16_N (SOIC, 16-Leads, Body 9.9x3.9mm, Pitch 1.27mm, IPC Medium Density)
footprint D16_L (SOIC, 16-Leads, Body 9.9x3.9mm, Pitch 1.27mm, IPC High Density)
footprint D16_M (SOIC, 16-Leads, Body 9.9x3.9mm, Pitch 1.27mm, IPC Low Density)
pins: 1 LCOM (hiz) "Open-drain output switches VCC to source current for the LEDs. The switch is off during initialization to allow reading of the soft pull-up or pull-down program resistors. LCOM is also high impedance when the display is off.", 2 SEG1/PROG1 (io) "Each output may activate an LED to sink the current sourced from LCOM. This three-level input pin defines the programmed full-count (PFC), display mode, self-discharge rate, offset compensation, overload threshold, and (See Datasheet)", 3 SEG2/PROG2 (io) "Each output may activate an LED to sink the current sourced from LCOM. This three-level input pin defines the programmed full-count (PFC), display mode, self-discharge rate, offset compensation, overload threshold, and (See Datasheet)", 4 SEG3/PROG3 (io) "Each output may activate an LED to sink the current sourced from LCOM. This three-level input pin defines the programmed full-count (PFC), display mode, self-discharge rate, offset compensation, overload threshold, and (See Datasheet)", 5 SEG4/PROG4 (io) "Each output may activate an LED to sink the current sourced from LCOM. This three-level input pin defines the programmed full-count (PFC), display mode, self-discharge rate, offset compensation, overload threshold, and (See Datasheet)", 6 SEG5/PROG5 (io) "Each output may activate an LED to sink the current sourced from LCOM. This three-level input pin defines the programmed full-count (PFC), display mode, self-discharge rate, offset compensation, overload threshold, and (See Datasheet)", 7 PROG6 (in) "This three-level input pin defines the programmed full-count (PFC), display mode, self-discharge rate, offset compensation, overload threshold, and charge compensation.", 8 VSS (power) "Ground", 9 SR (in) "The voltage drop (VSR) across the sense resistor RS is monitored and integrated over time to interpret charge and discharge activity. The SR input (see Figure 1) is connected between the negative terminal of the battery and (See Datasheet)", 10 ~{DISP} (in) "D\I\S\P\ pulled high disables the display. D\I\S\P\ floating allows the LED display to be active during certain charge and discharge conditions. Transitioning D\I\S\P\ low activates the display.", 11 SB (in) "This input monitors the scaled battery voltage through a high-impedance resistive divider network for the end-of-discharge voltage (EDV) thresholds.", 12 RBI (in) "This input is used to provide backup potential to the bq2013H registers during periods when VCC < 3V. A storage capacitor can be connected to RBI.", 13 HDQ (io) "This is an open-drain bidirectional communications port.", 14 DONE (io) "This input/output is used to communicate the status of an external charge controller to the bq2013H.", 15 REF (out) "REF provides a voltage reference output for an optional micro-regulator.", 16 VCC (power) "Supply voltage input"